# Altium schematic symbol library 0532610471.SchLib: 1 symbol
Pins are listed as number, name and electrical type; pins without a type are passive.

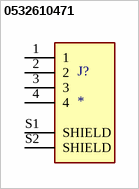
[diagram p0: symbol 0532610471]

## 0532610471
designator J?
Picoblade Connector, 4 Circuit Single Row, Right Angle Surface Mount SMT PCB; MP: 0532610471; MF: Molex; Value: *; SnapEDA_Link: https://www.snapeda.com/parts/0532610471/Molex/view-part/?ref=snap; Check_prices: https://www.snapeda.com/parts/0532610471/Molex/view-part/?ref=eda; Availability: In Stock; Price: None; Purchase-URL: https://pricing.snapeda.com/search/part/0532610471/?ref=eda; Package: None
footprint MOLEX_0532610471
pins: 1, 2, 3, 4, S1 SHIELD, S2 SHIELD